# Altium footprint library Common.PcbLib: 4 footprints
Each footprint in its own frame and in the unit in brackets; x right, y up, seen from the top. Pads: shape width x height; smd on the part's side, far side on the other; paste and mask are expansions set on the pad; w line width, h text height; cw(c..) or ccw(c..) is an arc to the next point about the centre after c.
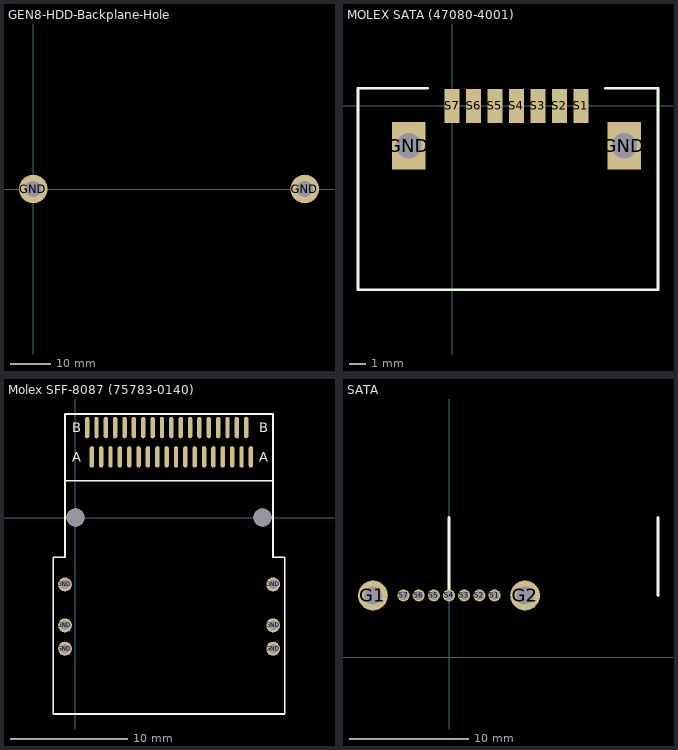
[diagram p0: the footprints below, top view; thin cyan lines are the x and y axes]

## GEN8-HDD-Backplane-Hole [mm]
pads (2):
  round 7 hole 4: GND(0,0) GND(66.5,0)

## MOLEX SATA (47080-4001) [mm] "47080-4001,0470804001"
pads (9):
  rect 2x2.8 hole 1.5: GND(-2.56,-2.36) GND(10.18,-2.36)
  rect 0.9x2 smd: S1(7.62,0) S2(6.35,0) S3(5.08,0) S4(3.81,0) S5(2.54,0) S6(1.27,0) S7(0,0)
Top Overlay:
  lines w0.152: -1.45,1.04 -5.56,1.04 -5.56,-10.86 12.18,-10.86 12.18,1.04 9.07,1.04

## Molex SFF-8087 (75783-0140) [mm] "75783-0140,0757830140"
pads (42):
  oval 0.38x1.83 smd: A1(1.4,5.18) A2(2.2,5.18) A3(3,5.18) A4(3.8,5.18) A5(4.6,5.18) A6(5.4,5.18) A7(6.2,5.18) A8(7,5.18) A9(7.8,5.18) A10(8.6,5.18) A11(9.4,5.18) A12(10.2,5.18) A13(11,5.18) A14(11.8,5.18) A15(12.6,5.18) A16(13.4,5.18) A17(14.2,5.18) A18(15,5.18) B1(1,7.69) B2(1.8,7.69) B3(2.6,7.69) B4(3.4,7.69) B5(4.2,7.69) B6(5,7.69) B7(5.8,7.69) B8(6.6,7.69) B9(7.4,7.69) B10(8.2,7.69) B11(9,7.69) B12(9.8,7.69) B13(10.6,7.69) B14(11.4,7.69) B15(12.2,7.69) B16(13,7.69) B17(13.8,7.69) B18(14.6,7.69)
  round 1.2 hole 0.8: GND(-0.9,-11.22) GND(-0.9,-9.22) GND(-0.9,-5.72) GND(16.9,-11.22) GND(16.9,-9.22) GND(16.9,-5.72)
via 0,0 diameter 1.55 hole 1.55
via 16,0 diameter 1.55 hole 1.55
Top Overlay:
  lines w0.152: -0.9,3.15 16.9,3.15 ; -1.9,-16.8 17.9,-16.8 17.9,-3.4 16.9,-3.4 16.9,8.85 -0.9,8.85 -0.9,-3.4 -1.9,-3.4 -1.9,-16.8
  text "A" at 15.73,4.78 h0.81
  text "A" at -0.27,4.78 h0.81
  text "B" at 15.73,7.29 h0.81
  text "B" at -0.27,7.29 h0.81

## SATA [mm]
pads (9):
  round 2.5 hole 1.5: G1(-6.37,5.18) G2(6.37,5.18)
  round 1 hole 0.74: S1(3.81,5.18) S2(2.54,5.18) S3(1.27,5.18) S4(0,5.18) S5(-1.27,5.18) S6(-2.54,5.18) S7(-3.81,5.18)
Top Overlay:
  lines w0.254: 0,5.18 0,11.7 ; 17.5,5.18 17.5,11.7